# Altium schematic symbol library MICROCHIP_CAP1188.SchLib: 1 symbol
Pins are listed as number, name and electrical type; pins without a type are passive.

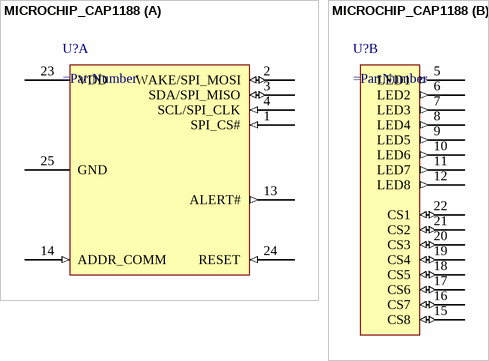
[diagram p0: symbol MICROCHIP_CAP1188]

## MICROCHIP_CAP1188
designator U?
part A pins: 1 SPI_CS# (in), 2 WAKE/SPI_MOSI (io), 3 SDA/SPI_MISO (io), 4 SCL/SPI_CLK (in), 13 ALERT# (out), 14 ADDR_COMM (in), 23 VDD, 24 RESET (in), 25 GND
part B pins: 5 LED1 (out), 6 LED2 (out), 7 LED3 (out), 8 LED4 (out), 9 LED5 (out), 10 LED6 (out), 11 LED7 (out), 12 LED8 (out), 15 CS8 (io), 16 CS7 (io), 17 CS6 (io), 18 CS5 (io), 19 CS4 (io), 20 CS3 (io), 21 CS2 (io), 22 CS1 (io)